# EAGLE library part 6250XX21721_62501021721 (library Eagle_WR-BHD (rev21a))
WR-BHD 2.00 mm Male Angled Box Header KIND PROPERTIES: Pitch 2 mm Gender:Male MATERIAL PROPERTIES: Insulator Material:PBT Insulator Flammability Rating UL94 V-0 Insulator Color:Black Contact Material :Copper Alloy Contact Plating :Gold Contact Type: Stamped GENERAL INFORMATION: Operating Temperature:-40 °C up to +125 °C Compliance:RoHS Working Voltage: 250 V (AC) Withstanding Voltage:500 V (AC) Contact Resistance: 20 mΩ Insulation Resistance:1000 MΩ PACKAGING PROPERTIES Packaging :Tray <https://www.we-online.de/katalog/media/o32929v209%20Family_WR-BHD_6250xx21721.jpg> Details see: https://www.we-online.de/katalog/en/em/BHD_2_00_MALE_ANGLED_BOX_HEADER_6250XX21721 Updated by Yingchun,Shan 2019-11-04 2019 (C) Würth Elektronik
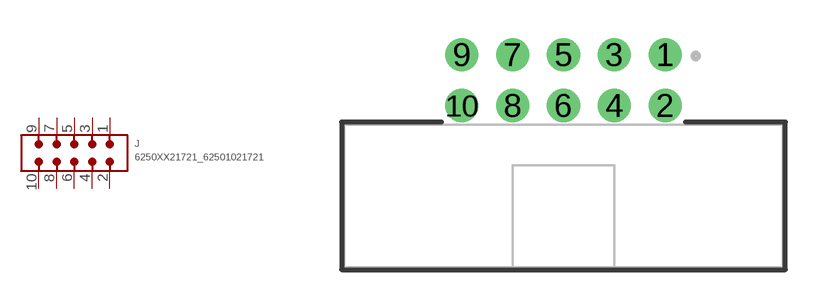
[diagram p81: symbol with the pads of 62501021721; footprint 62501021721]

Designator prefix J

## 6250XX21721_62501021721 (CONTACT-RESISTANCE: 20mOhm; DATASHEET-URL: https://www.we-online.com/catalog/datasheet/62501021721.pdf; GENDER: Male; IR: 2A; L: 17.25mm; MOUNT: THT; PACKAGING: Tray; PART-NUMBER: 62501021721; PINS: 10; PITCH: 2mm; TYPE: Angled; VALUE: 62501021721; WORKING-VOLTAGE: 250V(AC))  [62501021721]
1  1  pas
2  2  pas
3  3  pas
4  4  pas
5  5  pas
6  6  pas
7  7  pas
8  8  pas
9  9  pas
10  10  pas

## Footprint 62501021721 (pad centres in mm)
WR-BHD 2.00 mm Male Angled Box Header,10 pins
drill 0.8: 1 4,5.55; 2 4,3.55; 3 2,5.55; 4 2,3.55; 5 0,5.55; 6 0,3.55; 7 -2,5.55; 8 -2,3.55; 9 -4,5.55; 10 -4,3.55